# Altium schematic symbol library Core3506.SCHLIB: 1 symbol
Pins are listed as number, name and electrical type; pins without a type are passive.

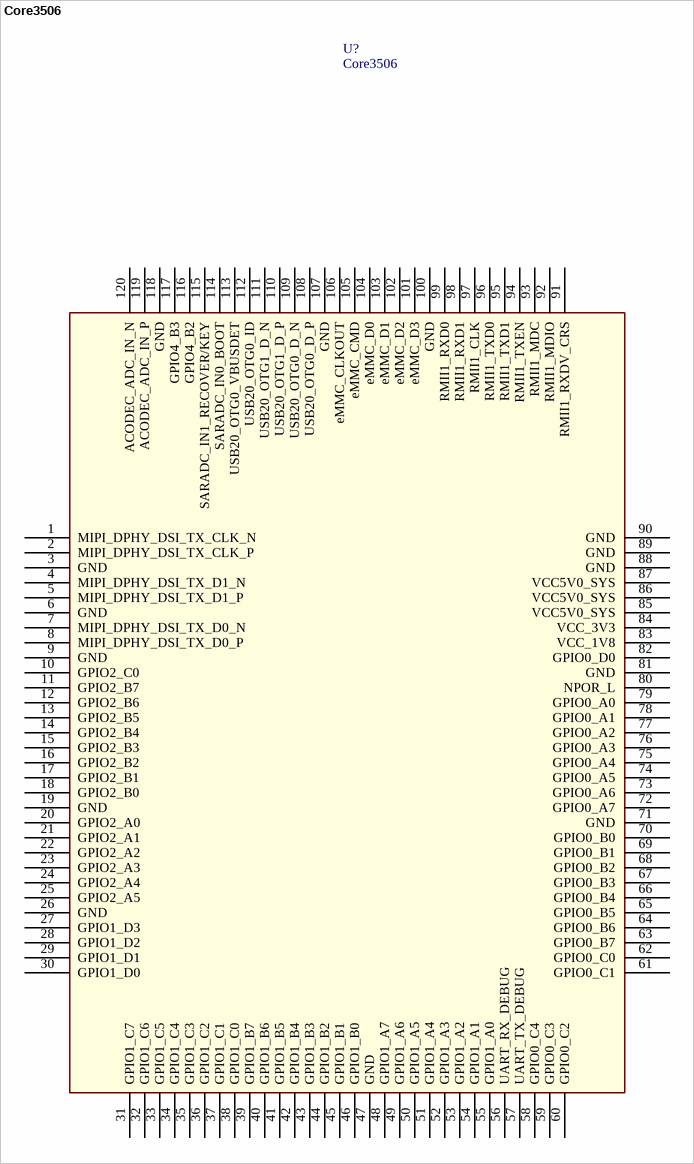
[diagram p0: symbol Core3506]

## Core3506
designator U?
footprint Core1106-SMT
footprint CORE3506_[32*32]_120P
pins: 1 MIPI_DPHY_DSI_TX_CLK_N, 2 MIPI_DPHY_DSI_TX_CLK_P, 3 GND, 4 MIPI_DPHY_DSI_TX_D1_N, 5 MIPI_DPHY_DSI_TX_D1_P, 6 GND, 7 MIPI_DPHY_DSI_TX_D0_N, 8 MIPI_DPHY_DSI_TX_D0_P, 9 GND, 10 GPIO2_C0, 11 GPIO2_B7, 12 GPIO2_B6, 13 GPIO2_B5, 14 GPIO2_B4, 15 GPIO2_B3, 16 GPIO2_B2, 17 GPIO2_B1, 18 GPIO2_B0, 19 GND, 20 GPIO2_A0, 21 GPIO2_A1, 22 GPIO2_A2, 23 GPIO2_A3, 24 GPIO2_A4, 25 GPIO2_A5, 26 GND, 27 GPIO1_D3, 28 GPIO1_D2, 29 GPIO1_D1, 30 GPIO1_D0, 31 GPIO1_C7, 32 GPIO1_C6, 33 GPIO1_C5, 34 GPIO1_C4, 35 GPIO1_C3, 36 GPIO1_C2, 37 GPIO1_C1, 38 GPIO1_C0, 39 GPIO1_B7, 40 GPIO1_B6, 41 GPIO1_B5, 42 GPIO1_B4, 43 GPIO1_B3, 44 GPIO1_B2, 45 GPIO1_B1, 46 GPIO1_B0, 47 GND, 48 GPIO1_A7, 49 GPIO1_A6, 50 GPIO1_A5, 51 GPIO1_A4, 52 GPIO1_A3, 53 GPIO1_A2, 54 GPIO1_A1, 55 GPIO1_A0, 56 UART_RX_DEBUG, 57 UART_TX_DEBUG, 58 GPIO0_C4, 59 GPIO0_C3, 60 GPIO0_C2, 61 GPIO0_C1, 62 GPIO0_C0, 63 GPIO0_B7, 64 GPIO0_B6, 65 GPIO0_B5, 66 GPIO0_B4, 67 GPIO0_B3, 68 GPIO0_B2, 69 GPIO0_B1, 70 GPIO0_B0, 71 GND, 72 GPIO0_A7, 73 GPIO0_A6, 74 GPIO0_A5, 75 GPIO0_A4, 76 GPIO0_A3, 77 GPIO0_A2, 78 GPIO0_A1, 79 GPIO0_A0, 80 NPOR_L, 81 GND, 82 GPIO0_D0, 83 VCC_1V8, 84 VCC_3V3, 85 VCC5V0_SYS, 86 VCC5V0_SYS, 87 VCC5V0_SYS, 88 GND, 89 GND, 90 GND, 91 RMII1_RXDV_CRS, 92 RMII1_MDIO, 93 RMII1_MDC, 94 RMII1_TXEN, 95 RMII1_TXD1, 96 RMII1_TXD0, 97 RMII1_CLK, 98 RMII1_RXD1, 99 RMII1_RXD0, 100 GND, 101 eMMC_D3, 102 eMMC_D2, 103 eMMC_D1, 104 eMMC_D0, 105 eMMC_CMD, 106 eMMC_CLKOUT, 107 GND, 108 USB20_OTG0_D_P, 109 USB20_OTG0_D_N, 110 USB20_OTG1_D_P, 111 USB20_OTG1_D_N, 112 USB20_OTG0_ID, 113 USB20_OTG0_VBUSDET, 114 SARADC_IN0_BOOT, 115 SARADC_IN1_RECOVER/KEY, 116 GPIO4_B2, 117 GPIO4_B3, 118 GND, 119 ACODEC_ADC_IN_P, 120 ACODEC_ADC_IN_N